# Altium schematic symbol library SCH - MCU - ATTINY - MICROCHIP ATTINY816-MFR VQFN20.SchLib: 1 symbol
Pins are listed as number, name and electrical type; pins without a type are passive.

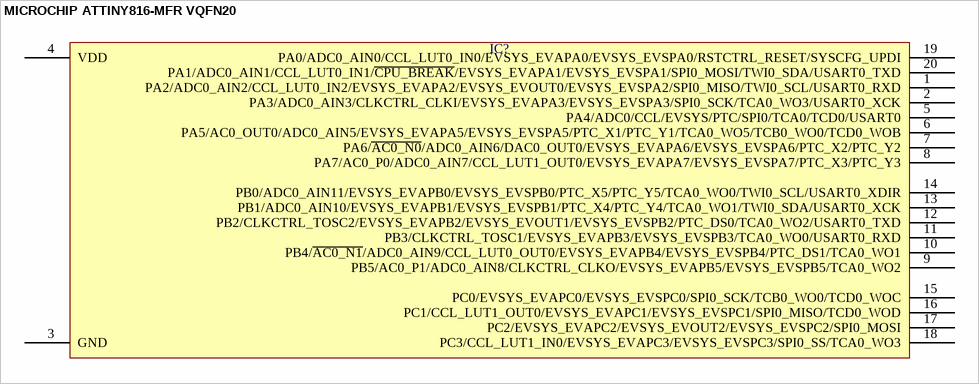
[diagram p0: symbol MICROCHIP ATTINY816-MFR VQFN20]

## MICROCHIP ATTINY816-MFR VQFN20
designator IC?  (value not drawn)
pins: 1 PA2/ADC0_AIN2/CCL_LUT0_IN2/EVSYS_EVAPA2/EVSYS_EVOUT0/EVSYS_EVSPA2/SPI0_MISO/TWI0_SCL/USART0_RXD, 2 PA3/ADC0_AIN3/CLKCTRL_CLKI/EVSYS_EVAPA3/EVSYS_EVSPA3/SPI0_SCK/TCA0_WO3/USART0_XCK, 3 GND, 4 VDD, 5 PA4/ADC0/CCL/EVSYS/PTC/SPI0/TCA0/TCD0/USART0, 6 PA5/AC0_OUT0/ADC0_AIN5/EVSYS_EVAPA5/EVSYS_EVSPA5/PTC_X1/PTC_Y1/TCA0_WO5/TCB0_WO0/TCD0_WOB, 7 PA6/~{AC0_N0}/ADC0_AIN6/DAC0_OUT0/EVSYS_EVAPA6/EVSYS_EVSPA6/PTC_X2/PTC_Y2, 8 PA7/AC0_P0/ADC0_AIN7/CCL_LUT1_OUT0/EVSYS_EVAPA7/EVSYS_EVSPA7/PTC_X3/PTC_Y3, 9 PB5/AC0_P1/ADC0_AIN8/CLKCTRL_CLKO/EVSYS_EVAPB5/EVSYS_EVSPB5/TCA0_WO2, 10 PB4/~{AC0_N1}/ADC0_AIN9/CCL_LUT0_OUT0/EVSYS_EVAPB4/EVSYS_EVSPB4/PTC_DS1/TCA0_WO1, 11 PB3/CLKCTRL_TOSC1/EVSYS_EVAPB3/EVSYS_EVSPB3/TCA0_WO0/USART0_RXD, 12 PB2/CLKCTRL_TOSC2/EVSYS_EVAPB2/EVSYS_EVOUT1/EVSYS_EVSPB2/PTC_DS0/TCA0_WO2/USART0_TXD, 13 PB1/ADC0_AIN10/EVSYS_EVAPB1/EVSYS_EVSPB1/PTC_X4/PTC_Y4/TCA0_WO1/TWI0_SDA/USART0_XCK, 14 PB0/ADC0_AIN11/EVSYS_EVAPB0/EVSYS_EVSPB0/PTC_X5/PTC_Y5/TCA0_WO0/TWI0_SCL/USART0_XDIR, 15 PC0/EVSYS_EVAPC0/EVSYS_EVSPC0/SPI0_SCK/TCB0_WO0/TCD0_WOC, 16 PC1/CCL_LUT1_OUT0/EVSYS_EVAPC1/EVSYS_EVSPC1/SPI0_MISO/TCD0_WOD, 17 PC2/EVSYS_EVAPC2/EVSYS_EVOUT2/EVSYS_EVSPC2/SPI0_MOSI, 18 PC3/CCL_LUT1_IN0/EVSYS_EVAPC3/EVSYS_EVSPC3/SPI0_SS/TCA0_WO3, 19 PA0/ADC0_AIN0/CCL_LUT0_IN0/EVSYS_EVAPA0/EVSYS_EVSPA0/RSTCTRL_RESET/SYSCFG_UPDI, 20 PA1/ADC0_AIN1/CCL_LUT0_IN1/~{CPU_BREAK}/EVSYS_EVAPA1/EVSYS_EVSPA1/SPI0_MOSI/TWI0_SDA/USART0_TXD